# EAGLE library part 613026216921 (library Board-to-Board (rev18a))
WR-PHD 2.54mm Dual S. Header Bottom Entry Large, 26 Pins=>Code : Con_BTB_SHD_2.54_2_613026216921 <http://katalog.we-online.de/media/images/eican/Con_BTB_SHD_2.54_2_6130xx216921_pf2.jpg> Details see: http://katalog.we-online.de/en/em/613_0xx_216_921 Created 2014-05-30, Karrer Zheng 2014 (C) Würth Elektronik
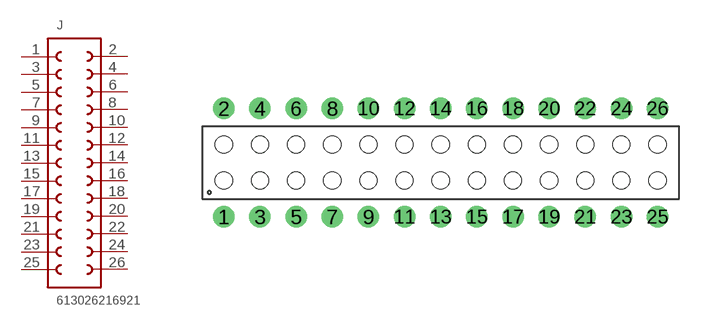
[diagram p173: symbol with the pads of 613026216921; footprint 613026216921]

Designator prefix J

## 613026216921  [613026216921]
1  1  pas
2  26  pas
3  2  pas
4  25  pas
5  3  pas
6  24  pas
7  4  pas
8  23  pas
9  5  pas
10  22  pas
11  6  pas
12  21  pas
13  7  pas
14  20  pas
15  8  pas
16  19  pas
17  9  pas
18  18  pas
19  10  pas
20  17  pas
21  11  pas
22  16  pas
23  12  pas
24  15  pas
25  13  pas
26  14  pas

## Footprint 613026216921 (pad centres in mm)
WR-PHD 2.54mm Dual S. Header Bottom Entry Large, 26 Pins
drill 1: 1 -15.24,-3.81; 2 -15.24,3.81; 3 -12.7,-3.81; 4 -12.7,3.81; 5 -10.16,-3.81; 6 -10.16,3.81; 7 -7.62,-3.81; 8 -7.62,3.81; 9 -5.08,-3.81; 10 -5.08,3.81; 11 -2.54,-3.81; 12 -2.54,3.81; 13 0,-3.81; 14 0,3.81; 15 2.54,-3.81; 16 2.54,3.81; 17 5.08,-3.81; 18 5.08,3.81; 19 7.62,-3.81; 20 7.62,3.81; 21 10.16,-3.81; 22 10.16,3.81; 23 12.7,-3.81; 24 12.7,3.81; 25 15.24,-3.81; 26 15.24,3.81
hole 1.2 at -15.24,1.27
hole 1.2 at -12.7,1.27
hole 1.2 at -12.7,-1.27
hole 1.2 at -15.24,-1.27
hole 1.2 at -10.16,1.27
hole 1.2 at -10.16,-1.27
hole 1.2 at -7.62,-1.27
hole 1.2 at -7.62,1.27
hole 1.2 at -5.08,1.27
hole 1.2 at -5.08,-1.27
hole 1.2 at -2.54,-1.27
hole 1.2 at -2.54,1.27
hole 1.2 at 0,1.27
hole 1.2 at 2.54,1.27
hole 1.2 at 0,-1.27
hole 1.2 at 2.54,-1.27
hole 1.2 at 5.08,1.27
hole 1.2 at 5.08,-1.27
hole 1.2 at 7.62,1.27
hole 1.2 at 7.62,-1.27
hole 1.2 at 10.16,1.27
hole 1.2 at 10.16,-1.27
hole 1.2 at 12.7,1.27
hole 1.2 at 12.7,-1.27
hole 1.2 at 15.24,1.27
hole 1.2 at 15.24,-1.27